# Altium footprint library elvis_lib.PcbLib: 50 footprints (part 1 of 4)
Each footprint in its own frame and in the unit in brackets; x right, y up, seen from the top. Pads: shape width x height; smd on the part's side, far side on the other; paste and mask are expansions set on the pad; w line width, h text height; cw(c..) or ccw(c..) is an arc to the next point about the centre after c.
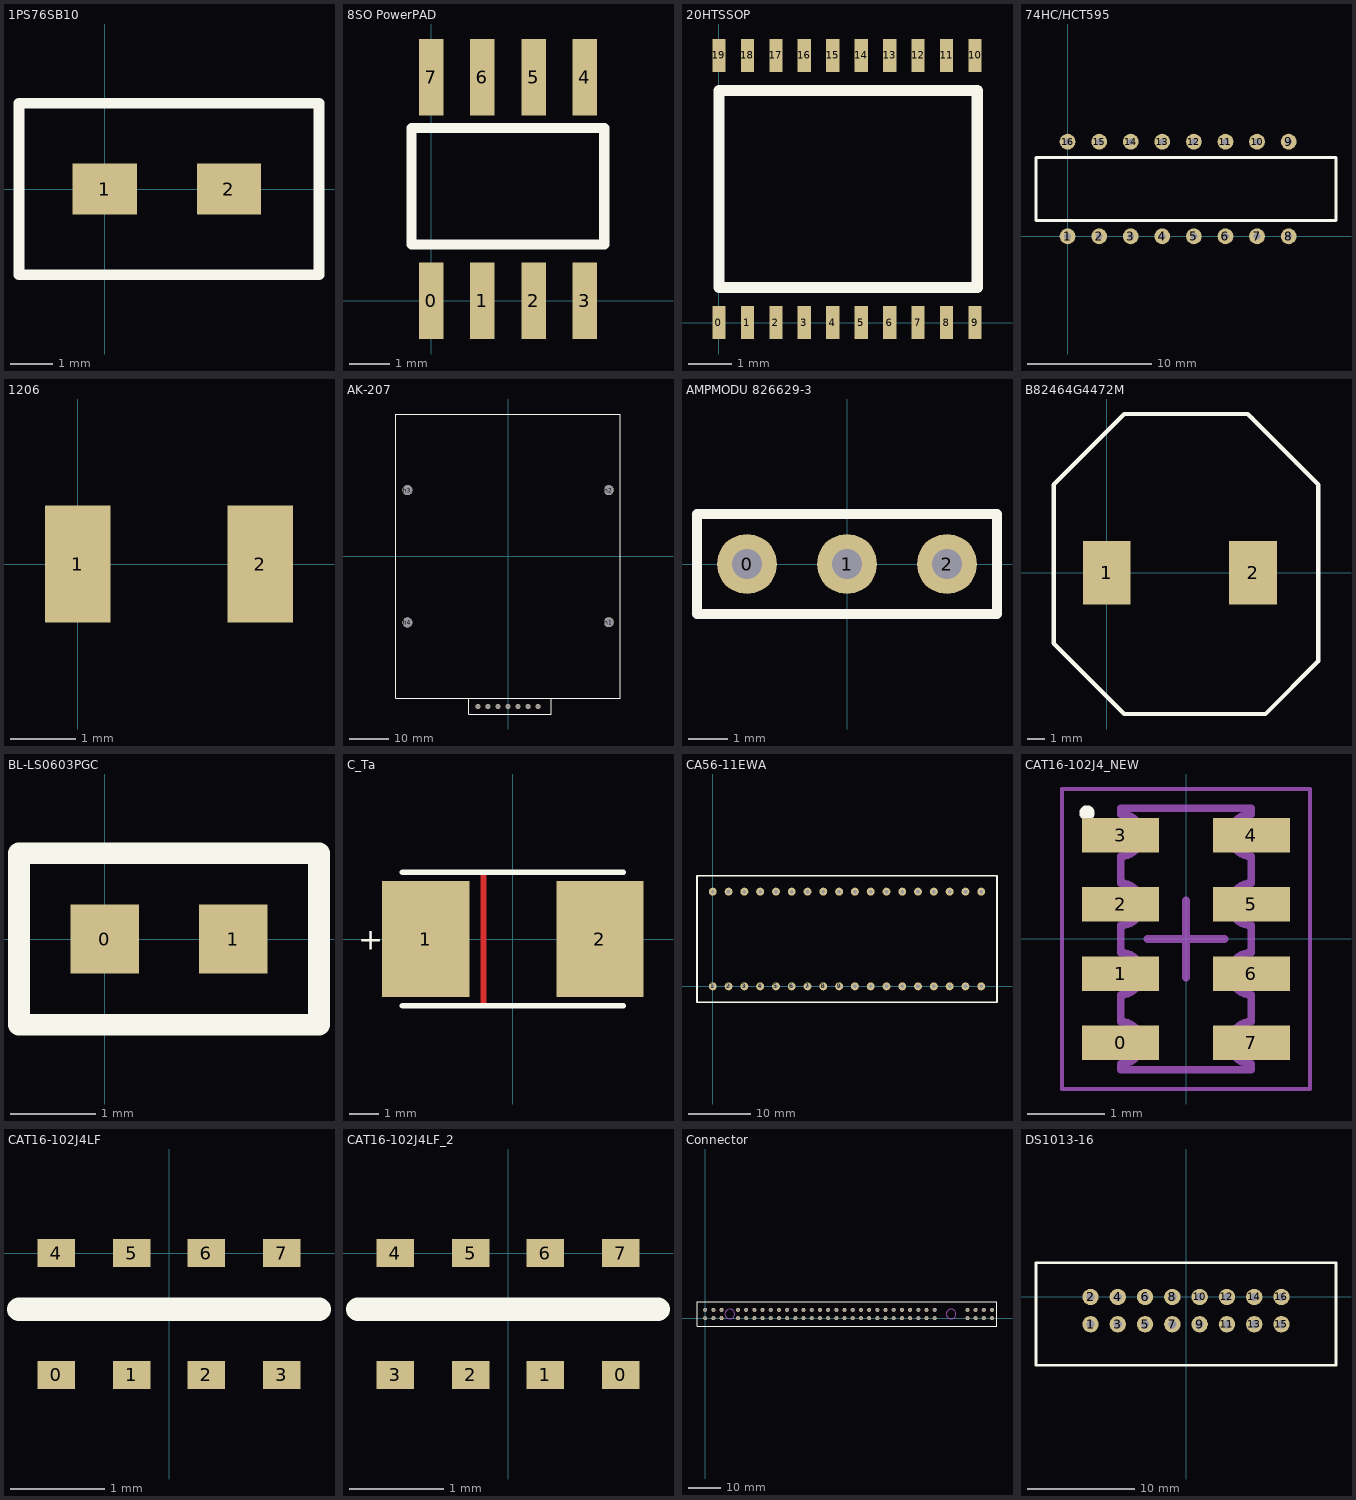
[diagram p0: the footprints below, top view; thin cyan lines are the x and y axes]

## 1PS76SB10 [mm]
pads (2):
  rect 1.5x1.2 smd mask+0.05: 1(0,0) 2(2.9,0)
Top Overlay:
  lines w0.254: -2,-2 -2,2 5,2 5,-2 -2,-2

## 8SO PowerPAD [mm]
pads (8):
  rect 0.61x1.91 smd mask+0.05: 0(0,0) 1(1.27,0) 2(2.54,0) 3(3.81,0) 4(3.81,5.56) 5(2.54,5.56) 6(1.27,5.56) 7(0,5.56)
Top Overlay:
  lines w0.254: -0.5,1.4 4.3,1.4 4.3,4.3 1.9,4.3 -0.5,4.3 -0.5,1.4

## 20HTSSOP [mm]
pads (20):
  rect 0.3x0.75 smd mask+0.05: 0(0,0) 1(0.65,0) 2(1.3,0) 3(1.95,0) 4(2.6,0) 5(3.25,0) 6(3.9,0) 7(4.55,0) 8(5.2,0) 9(5.85,0) 10(5.85,6.1) 11(5.2,6.1) 12(4.55,6.1) 13(3.9,6.1) 14(3.25,6.1) 15(2.6,6.1) 16(1.95,6.1) 17(1.3,6.1) 18(0.65,6.1) 19(0,6.1)
Top Overlay:
  lines w0.254: 0,0.8 0,5.3 5.9,5.3 5.9,0.8 0,0.8

## 74HC/HCT595 [mm]
pads (16):
  round 1.27 / inner rect 0.8x2.54 / far side round 1.27 hole 0.54 square: 1(0,0) 2(2.54,0) 3(5.08,0) 4(7.62,0) 5(10.16,0) 6(12.7,0) 7(15.24,0) 8(17.78,0) 9(17.78,7.62) 10(15.24,7.62) 11(12.7,7.62) 12(10.16,7.62) 13(7.62,7.62) 14(5.08,7.62) 15(2.54,7.62) 16(0,7.62)
Top Overlay:
  lines w0.254: -2.54,1.27 21.59,1.27 21.59,6.35 -2.54,6.35 -2.54,1.27

## 1206 [mm]
pads (2):
  rect 1x1.8 smd mask+0.05: 1(0,0) 2(2.8,0)

## AK-207 [mm]
pads (11):
  round 1.27 / inner round 1.524 / far side round 1.27 hole 1: 1(-7.62,-38.1) 2(-5.08,-38.1) 3(-2.54,-38.1) 4(0,-38.1) 5(2.54,-38.1) 6(5.08,-38.1) 7(7.62,-38.1)
  round 2.5 hole 2.5 unplated: h1(25.525,-16.75)
  round 2.5 hole 2.5: h2(25.525,16.7) h3(-25.5,16.7) h4(-25.5,-16.8)
Top Overlay:
  lines w0.254: -10,-36 -10,-40 11,-40 11,-36 ; 28.5,30.8 28.5,36 -28.5,36 -28.5,33.7 -28.5,-36 28.5,-36 28.5,31

## AMPMODU 826629-3 [mil] "Гребенка"
pads (3):
  round 60 hole 30: 0(-100,0) 1(0,0) 2(100,0)
Top Overlay:
  lines w10: -150,-50 150,-50 150,50 -150,50 -150,-50

## B82464G4472M [mm]
pads (2):
  rect 2.7x3.6 smd mask+0.05: 1(0,0) 2(8.3,0)
Top Overlay:
  lines w0.254: -3,-4 -3,5 1,9 8,9 8.25,8.75 10.75,6.25 12,5 12,-5 9,-8 1,-8 -3,-4

## BL-LS0603PGC [mm]
pads (2):
  rect 0.8x0.8 smd: 0(0,0) 1(1.5,0)
Top Overlay:
  lines w0.254: -1,-1 -1,1 2.5,1 2.5,-1 -1,-1

## C_Ta [mm]
pads (2):
  rect 3x4 smd: 1(-3,0) 2(3,0)
Top Layer:
  lines w0.2: -1.016,-2.159 -1.016,2.159
Top Overlay:
  lines w0.2: -3.8,-2.3 3.8,-2.3 ; -3.8,2.3 3.8,2.3
  text "+" at -5.334,-0.375 h0.75
3D body "CAPMP7343X430N.stp": height 4.3, standoff 0, extent -3.8,-2.3 3.8,2.3

## CA56-11EWA [mm]
pads (36):
  round 1.27 / inner round 0.8 / far side round 1.27 hole 0.6: 1(0,0) 2(2.54,0) 3(5.08,0) 4(7.62,0) 5(10.16,0) 6(12.7,0) 7(15.24,0) 8(17.78,0) 9(20.32,0) 10(22.86,0) 11(25.4,0) 12(27.94,0) 13(30.48,0) 14(33.02,0) 15(35.56,0) 16(38.1,0) 17(40.64,0) 18(43.18,0) 19(43.18,15.24) 20(40.64,15.24) 21(38.1,15.24) 22(35.56,15.24) 23(33.02,15.24) 24(30.48,15.24) 25(27.94,15.24) 26(25.4,15.24) 27(22.86,15.24) 28(20.32,15.24) 29(17.78,15.24) 30(15.24,15.24) 31(12.7,15.24) 32(10.16,15.24) 33(7.62,15.24) 34(5.08,15.24) 35(2.54,15.24) 36(0,15.24)
Top Overlay:
  lines w0.254: -2.54,-2.54 -2.54,17.78 45.72,17.78 45.72,-2.54 -2.54,-2.54

## CAT16-102J4_NEW [mm] "Resistor Chip Array, Concave, 8-Leads, Pitch 0,90mm,  Body 3,20x1,55mm,  IPC Medium Density"
height 0.5
pads (8):
  rect 1x0.45 smd: 0(-0.85,-1.35) 1(-0.85,-0.45) 2(-0.85,0.45) 3(-0.85,1.35) 4(0.85,1.35) 5(0.85,0.45) 6(0.85,-0.45) 7(0.85,-1.35)
Top Overlay:
  circle w0.1: c-1.287,1.638 r0.05
Mechanical 13:
  lines w0.1: -0.85,-1.7 0.85,-1.7 0.85,-1.625 cw(c0.85,-1.35) 0.85,-1.075 0.85,-0.725 cw(c0.85,-0.45) 0.85,-0.175 0.85,0.175 cw(c0.85,0.45) 0.85,0.725 0.85,1.075 cw(c0.85,1.35) 0.85,1.625 0.85,1.7 -0.85,1.7 -0.85,1.625 cw(c-0.85,1.35) -0.85,1.075 -0.85,0.725 cw(c-0.85,0.45) -0.85,0.175 -0.85,-0.175 cw(c-0.85,-0.45) -0.85,-0.725 -0.85,-1.075 cw(c-0.85,-1.35) -0.85,-1.625 -0.85,-1.7
Mechanical 15:
  lines w0.05: -1.61,-1.95 1.61,-1.95 1.61,1.95 -1.61,1.95 -1.61,-1.95
  lines w0.1: -0.5,0 0.5,0 ; 0,-0.5 0,0.5
3D body: height 0.5, standoff 0, extent -0.9,-1.7 0.9,1.7

## CAT16-102J4LF [mm]
pads (8):
  rect 0.4x0.3 smd mask+0.05: 0(-1.2,-1.3) 1(-0.4,-1.3) 2(0.4,-1.3) 3(1.2,-1.3) 4(-1.2,0) 5(-0.4,0) 6(0.4,0) 7(1.2,0)
Top Overlay:
  lines w0.254: -1.6,-0.6 1.6,-0.6 -1.6,-0.6

## CAT16-102J4LF_2 [mm]
pads (8):
  rect 0.4x0.3 smd mask+0.05: 0(1.2,-1.3) 1(0.4,-1.3) 2(-0.4,-1.3) 3(-1.2,-1.3) 4(-1.2,0) 5(-0.4,0) 6(0.4,0) 7(1.2,0)
Top Overlay:
  lines w0.254: -1.6,-0.6 1.6,-0.6 -1.6,-0.6

## Connector [mm] "MCU/FPGA board connector"
pads (64):
  round 1.27 / inner round 0.8 / far side round 1.27 hole 1: 0(0,2.54) 1(2.54,2.54) 2(5.08,2.54) 3(10.16,2.54) 4(12.7,2.54) 5(15.24,2.54) 6(17.78,2.54) 7(20.32,2.54) 8(22.86,2.54) 9(25.4,2.54) 10(27.94,2.54) 11(30.48,2.54) 12(33.02,2.54) 13(35.56,2.54) 14(38.1,2.54) 15(40.64,2.54) 16(43.18,2.54) 17(45.72,2.54) 18(48.26,2.54) 19(50.8,2.54) 20(53.34,2.54) 21(55.88,2.54) 22(58.42,2.54) 23(60.96,2.54) 24(63.5,2.54) 25(66.04,2.54) 26(68.58,2.54) 27(71.12,2.54) 28(81.275,2.54) 29(83.795,2.54) 30(86.325,2.54) 31(88.875,2.54) 32(88.875,0) 33(86.325,0) 34(83.795,0) 35(81.275,0) 36(71.12,0) 37(68.58,0) 38(66.04,0) 39(63.5,0) 40(60.96,0) 41(58.42,0) 42(55.88,0) 43(53.34,0) 44(50.8,0) 45(48.26,0) 46(45.72,0) 47(43.18,0) 48(40.64,0) 49(38.1,0) 50(35.56,0) 51(33.02,0) 52(30.48,0) 53(27.94,0) 54(25.4,0) 55(22.86,0) 56(20.32,0) 57(17.78,0) 58(15.24,0) 59(12.7,0) 60(10.16,0) 61(5.08,0) 62(2.54,0) 63(0,0)
Top Overlay:
  lines w0.254: -2.54,-2.54 90.425,-2.54 90.425,5.08 -2.54,5.08 -2.54,-2.54
Mechanical 1:
  circle w0.254: c7.62,1.27 r1.5
  circle w0.254: c76.2,1.271 r1.5

## DS1013-16 [mil]
pads (16):
  round 60 hole 30: 1(-350,-100) 2(-350,0) 3(-250,-100) 4(-250,0) 5(-150,-100) 6(-150,0) 7(-50,-100) 8(-50,0) 9(50,-100) 10(50,0) 11(150,-100) 12(150,0) 13(250,-100) 14(250,0) 15(350,-100) 16(350,0)
Top Overlay:
  lines w10: -550,-250 -550,125 550,125 550,-250 -550,-250